# EAGLE library part SWITCH-DPDT (library CougsInSpace-Switches)
Double Pole Double Throw - DPDT 100DP1T1B1M2QE <https://github.com/CougsInSpace/Resources/blob/master/SupplierDocuments/E-Switch/T121009_DPDT.pdf>
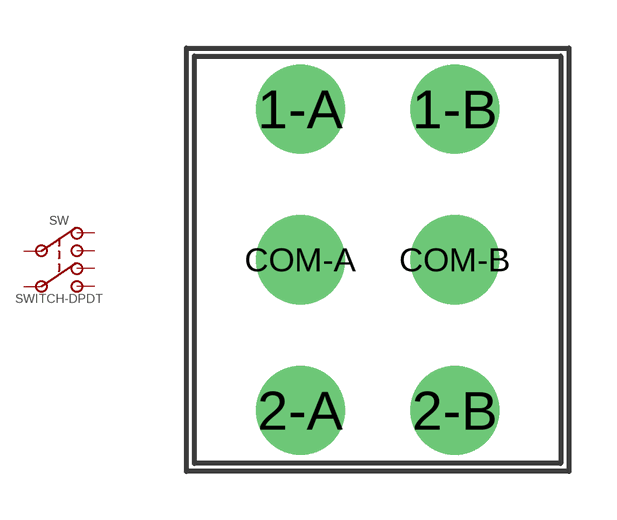
[diagram p0: symbol with the pads of 100DP1T1B1M2QE; footprint 100DP1T1B1M2QE]

Designator prefix SW

## SWITCH-DPDT-100DP1T1B1M2QE (SKU: 49-0003)  [100DP1T1B1M2QE]
1-A  1-A  pas
1-B  1-B  pas
2-A  2-A  pas
2-B  2-B  pas
COM-A  COM-A  pas
COM-B  COM-B  pas

## Footprint 100DP1T1B1M2QE (pad centres in mm)
DPDT-Through Hole 100DP1T1B1M2QE <https://github.com/CougsInSpace/Resources/blob/master/SupplierDocuments/E-Switch/T121009_DPDT.pdf>
drill 1.85: 1-A -2.41,4.7; 1-B 2.41,4.7; 2-A -2.41,-4.7; 2-B 2.41,-4.7; COM-A -2.41,0; COM-B 2.41,0